# Altium footprint library LED_Indicator_Pcb.PcbLib: 5 footprints
Each footprint in its own frame and in the unit in brackets; x right, y up, seen from the top. Pads: shape width x height; smd on the part's side, far side on the other; paste and mask are expansions set on the pad; w line width, h text height; cw(c..) or ccw(c..) is an arc to the next point about the centre after c.
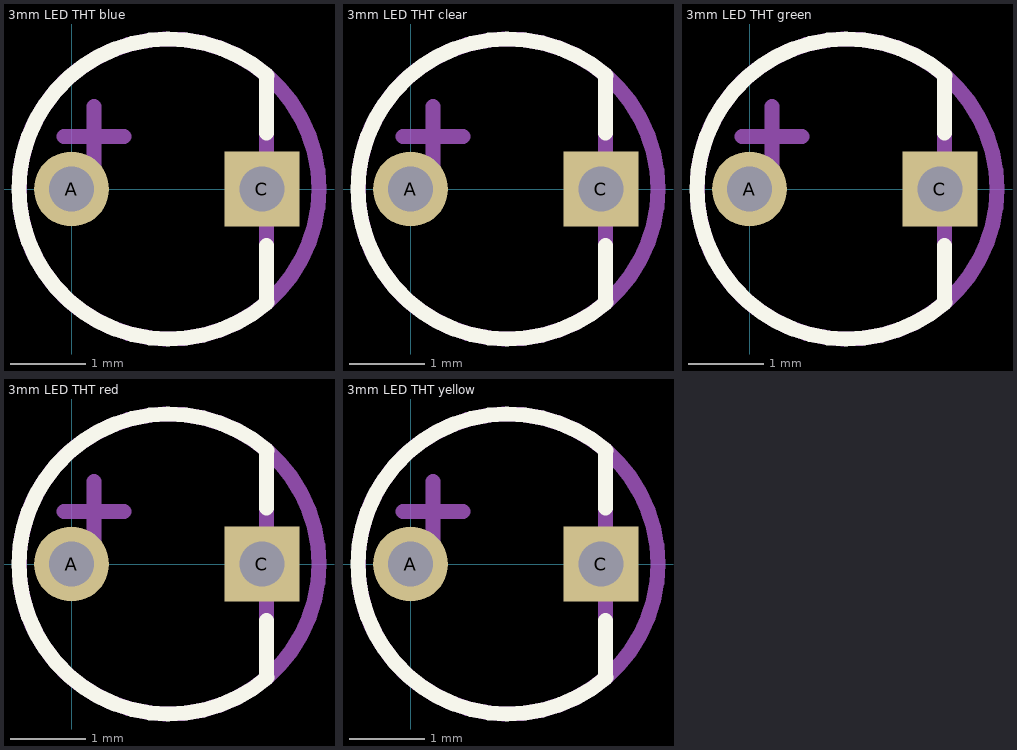
[diagram p0: the footprints below, top view; thin cyan lines are the x and y axes]

## 3mm LED THT blue [mm]
pads (2):
  round 1 hole 0.6 paste+0 mask+0.1: A(0,0)
  rect 1x1 hole 0.6 paste+0 mask+0.1: C(2.54,0)
Top Overlay:
  lines w0.2: 2.6,-1.5 2.6,-0.75 ; 2.6,0.75 2.6,1.5 ; 2.61,-1.511 cw(c1.3,0) 2.61,1.511
Mechanical 13:
  circle w0.2: c1.3,0 r2
  lines w0.2: -0.1,0.7 0.7,0.7 ; 0.3,0.3 0.3,1.1 ; 2.6,-1.5 2.6,1.5
  text "'.designator'" at -0.1,-0.912 h1
Mechanical 15:
  circle w0.2: c1.3,0 r2
3D body "everlight-3MM-LED-BLUE.step": height 12.57, standoff 0.01, extent -0.6,-1.9 2.826,1.9

## 3mm LED THT clear [mm]
pads (2):
  round 1 hole 0.6 paste+0 mask+0.1: A(0,0)
  rect 1x1 hole 0.6 paste+0 mask+0.1: C(2.54,0)
Top Overlay:
  lines w0.2: 2.6,-1.5 2.6,-0.75 ; 2.6,0.75 2.6,1.5 ; 2.61,-1.511 cw(c1.3,0) 2.61,1.511
Mechanical 13:
  circle w0.2: c1.3,0 r2
  lines w0.2: -0.1,0.7 0.7,0.7 ; 0.3,0.3 0.3,1.1 ; 2.6,-1.5 2.6,1.5
  text "'.designator'" at -0.1,-0.912 h1
Mechanical 15:
  circle w0.2: c1.3,0 r2
3D body "everlight-3MM-LED-CLEAR.step": height 12.57, standoff 0.01, extent -0.6,-1.9 2.826,1.9

## 3mm LED THT green [mm]
pads (2):
  round 1 hole 0.6 paste+0 mask+0.1: A(0,0)
  rect 1x1 hole 0.6 paste+0 mask+0.1: C(2.54,0)
Top Overlay:
  lines w0.2: 2.6,-1.5 2.6,-0.75 ; 2.6,0.75 2.6,1.5 ; 2.61,-1.511 cw(c1.3,0) 2.61,1.511
Mechanical 13:
  circle w0.2: c1.3,0 r2
  lines w0.2: -0.1,0.7 0.7,0.7 ; 0.3,0.3 0.3,1.1 ; 2.6,-1.5 2.6,1.5
  text "'.designator'" at -0.1,-0.912 h1
Mechanical 15:
  circle w0.2: c1.3,0 r2
3D body "everlight-3MM-LED-GREEN.step": height 12.57, standoff 0.01, extent -0.6,-1.9 2.826,1.9

## 3mm LED THT red [mm]
pads (2):
  round 1 hole 0.6 paste+0 mask+0.1: A(0,0)
  rect 1x1 hole 0.6 paste+0 mask+0.1: C(2.54,0)
Top Overlay:
  lines w0.2: 2.6,-1.5 2.6,-0.75 ; 2.6,0.75 2.6,1.5 ; 2.61,-1.511 cw(c1.3,0) 2.61,1.511
Mechanical 13:
  circle w0.2: c1.3,0 r2
  lines w0.2: -0.1,0.7 0.7,0.7 ; 0.3,0.3 0.3,1.1 ; 2.6,-1.5 2.6,1.5
  text "'.designator'" at -0.1,-0.912 h1
Mechanical 15:
  circle w0.2: c1.3,0 r2
3D body "everlight-3MM-LED-RED.step": height 12.58, standoff 0.01, extent -0.6,-1.9 2.826,1.9

## 3mm LED THT yellow [mm]
pads (2):
  round 1 hole 0.6 paste+0 mask+0.1: A(0,0)
  rect 1x1 hole 0.6 paste+0 mask+0.1: C(2.54,0)
Top Overlay:
  lines w0.2: 2.6,-1.5 2.6,-0.75 ; 2.6,0.75 2.6,1.5 ; 2.61,-1.511 cw(c1.3,0) 2.61,1.511
Mechanical 13:
  circle w0.2: c1.3,0 r2
  lines w0.2: -0.1,0.7 0.7,0.7 ; 0.3,0.3 0.3,1.1 ; 2.6,-1.5 2.6,1.5
  text "'.designator'" at -0.1,-0.912 h1
Mechanical 15:
  circle w0.2: c1.3,0 r2
3D body "everlight-3MM-LED-YELLOW.step": height 12.57, standoff 0.01, extent -0.6,-1.9 2.826,1.9